# EAGLE library part DRV8871 (library My_TI)
DRV8871 3.6-A Brushed DC Motor Driver With Internal Current Sense (PWM Control). • Wide 6.5-V to 45-V Operating Voltage • 565-mΩ Typical RDS(on) (HS + LS) • 3.6-A Peak Current Drive • PWM Control Interface • Current Regulation Without a Sense Resistor Datasheet <http://www.ti.com/lit/ds/symlink/drv8871.pdf>
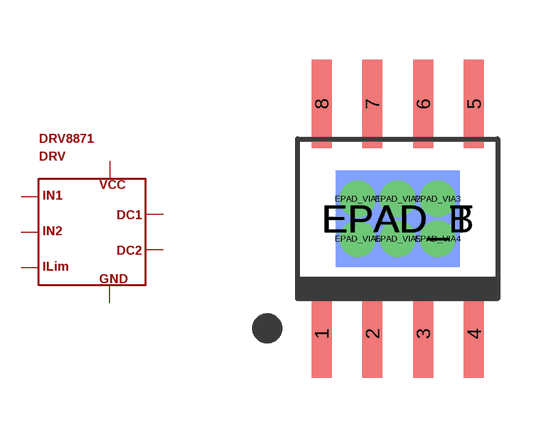
[diagram p29: symbol with the pads of HTSOP8; footprint HTSOP8]

Designator prefix DRV

## DRV8871  [HTSOP8]
1  1
2  2
3  3
4  4
5  5
6  6
7  1
8  8
EPAD_B  1
EPAD_T  1
EPAD_VIA1  1
EPAD_VIA2  1
EPAD_VIA3  1
EPAD_VIA4  1
EPAD_VIA5  1
EPAD_VIA6  1

## Footprint HTSOP8 (pad centres in mm)
smd 0.5 x 2.2: 1 -1.905,-2.875; 2 -0.635,-2.875; 3 0.635,-2.875; 4 1.905,-2.875; 5 1.905,2.875; 6 0.635,2.875; 7 -0.635,2.875; 8 -1.905,2.875
smd 3.1 x 2.4 bottom: EPAD_B 0,0
smd 3.1 x 2.4: EPAD_T 0,0
drill 0.4: EPAD_VIA1 -1,0.5; EPAD_VIA2 0,0.5; EPAD_VIA3 1,0.5; EPAD_VIA4 1,-0.5; EPAD_VIA5 0,-0.5; EPAD_VIA6 -1,-0.5